# EAGLE library part TXB0106 (library HyTechDevices)
Texas Instruments TXB0106 6-channel low voltage to high voltage Logic Level Shifter. Minimum input voltage level 1.8V. Maximum output voltage level 5.5V.
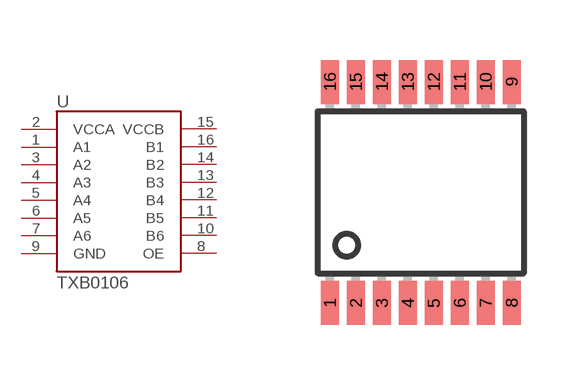
[diagram p20: symbol with the pads of TSSOP-16; footprint TSSOP-16]

Designator prefix -

## TXB0106  [TSSOP-16]
1  A1
2  VCCA
3  A2
4  A3
5  A4
6  A5
7  A6
8  OE
9  GND
10  B6
11  B5
12  B4
13  B3
14  B2
15  VCCB
16  B1

## Footprint TSSOP-16 (pad centres in mm)
16-Lead Thin Shrink Small Outline Package TSSOP
smd 0.45 x 1.1: 1 -2.275,-2.618; 2 -1.625,-2.618; 3 -0.975,-2.618; 4 -0.325,-2.618; 5 0.325,-2.618; 6 0.975,-2.618; 7 1.625,-2.618; 8 2.275,-2.618; 9 2.275,2.918; 10 1.625,2.918; 11 0.975,2.918; 12 0.325,2.918; 13 -0.325,2.918; 14 -0.975,2.918; 15 -1.625,2.918; 16 -2.275,2.918